# EAGLE library part CY8C22545-44PIN (library cypress_psoc_V1_0)
Cypress PSoC® 1 - Programmable System on Chip, M8C Based Source Data: http://www.cypress.com/?mpn=CY8C22545 LBR Source: http://www.westmarkelectronics.com Thomas W. Moxon Director of Engineering www.westmarkelectronics.com
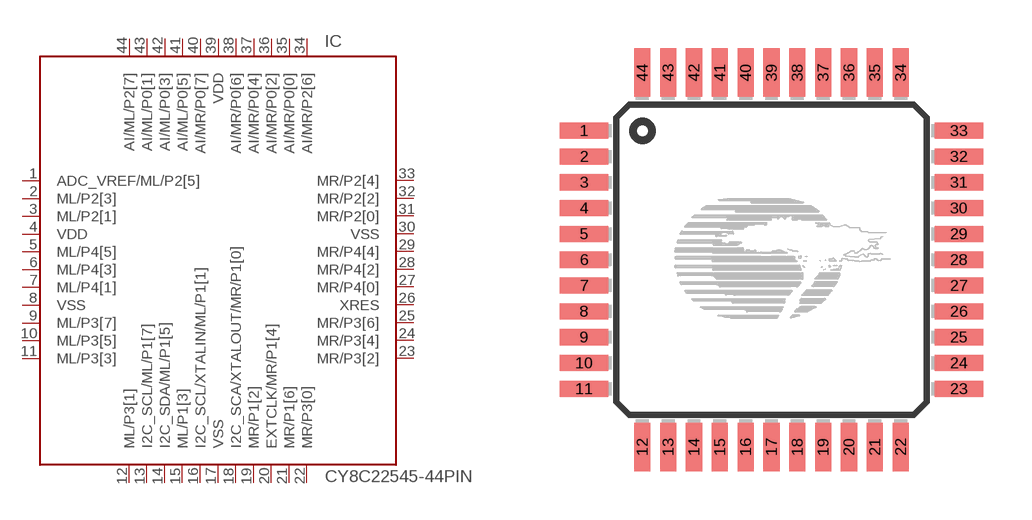
[diagram p5: symbol with the pads of TQFP-10X10-44; footprint TQFP-10X10-44]

Designator prefix IC

## CY8C22545-44PINAXI (MPN: CY8C22545-24AXI)  [TQFP-10X10-44]
1  ADC_VREF/ML/P2[5]
2  ML/P2[3]
3  ML/P2[1]
4  VDD  pwr
5  ML/P4[5]
6  ML/P4[3]
7  ML/P4[1]
8  VSS  pwr
9  ML/P3[7]
10  ML/P3[5]
11  ML/P3[3]
12  ML/P3[1]
13  I2C_SCL/ML/P1[7]
14  I2C_SDA/ML/P1[5]
15  ML/P1[3]
16  I2C_SCL/XTALIN/ML/P1[1]
17  VSS  pwr
18  I2C_SCA/XTALOUT/MR/P1[0]
19  MR/P1[2]
20  EXTCLK/MR/P1[4]
21  MR/P1[6]
22  MR/P3[0]
23  MR/P3[2]
24  MR/P3[4]
25  MR/P3[6]
26  XRES  in
27  MR/P4[0]
28  MR/P4[2]
29  MR/P4[4]
30  VSS  pwr
31  MR/P2[0]
32  MR/P2[2]
33  MR/P2[4]
34  AI/MR/P2[6]
35  AI/MR/P0[0]
36  AI/MR/P0[2]
37  AI/MR/P0[4]
38  AI/MR/P0[6]
39  VDD  pwr
40  AI/MR/P0[7]
41  AI/ML/P0[5]
42  AI/ML/P0[3]
43  AI/ML/P0[1]
44  AI/ML/P2[7]

## Footprint TQFP-10X10-44 (pad centres in mm)
TQFP-S-10X10-44 Thin Plastic Quad Flatpack with 44 pins Square 10mm x 10mm x 1.4mm Data Source: http://www.cypress.com/?docID=20444 LBR Source: http://www.westmarkelectronics.com
smd 1.5 x 0.5: 1 -5.8,4; 2 -5.8,3.2; 3 -5.8,2.4; 4 -5.8,1.6; 5 -5.8,0.8; 6 -5.8,0; 7 -5.8,-0.8; 8 -5.8,-1.6; 9 -5.8,-2.4; 10 -5.8,-3.2; 11 -5.8,-4; 23 5.8,-4; 24 5.8,-3.2; 25 5.8,-2.4; 26 5.8,-1.6; 27 5.8,-0.8; 28 5.8,0; 29 5.8,0.8; 30 5.8,1.6; 31 5.8,2.4; 32 5.8,3.2; 33 5.8,4
smd 0.5 x 1.5: 12 -4,-5.8; 13 -3.2,-5.8; 14 -2.4,-5.8; 15 -1.6,-5.8; 16 -0.8,-5.8; 17 0,-5.8; 18 0.8,-5.8; 19 1.6,-5.8; 20 2.4,-5.8; 21 3.2,-5.8; 22 4,-5.8; 34 4,5.8; 35 3.2,5.8; 36 2.4,5.8; 37 1.6,5.8; 38 0.8,5.8; 39 0,5.8; 40 -0.8,5.8; 41 -1.6,5.8; 42 -2.4,5.8; 43 -3.2,5.8; 44 -4,5.8